# EAGLE library part ARDUINO-BASE (library xmaker)
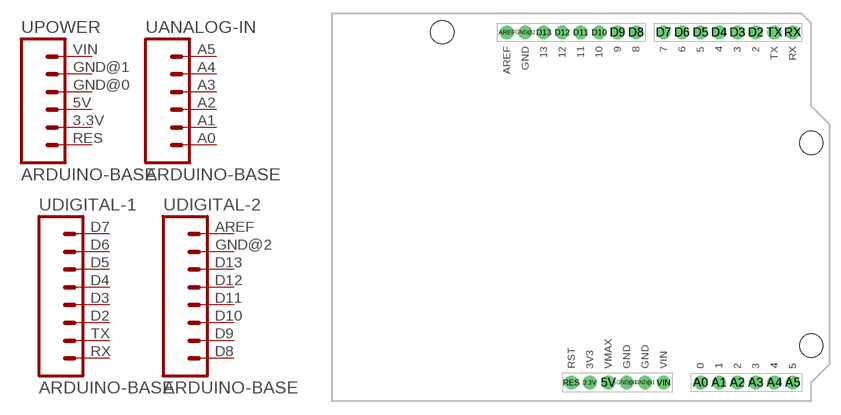
[diagram p22: symbol with the pads of ARDUINO-BASE; footprint ARDUINO-BASE]

Designator prefix U; gates ANALOG-IN=M06 DIGITAL-1=M08 DIGITAL-2=M08 POWER=M06

## ARDUINO-BASE  [ARDUINO-BASE]
3.3V  POWER:2  pas
5V  POWER:3  pas
A0  ANALOG-IN:1  pas
A1  ANALOG-IN:2  pas
A2  ANALOG-IN:3  pas
A3  ANALOG-IN:4  pas
A4  ANALOG-IN:5  pas
A5  ANALOG-IN:6  pas
AREF  DIGITAL-2:8  pas
D2  DIGITAL-1:3  pas
D3  DIGITAL-1:4  pas
D4  DIGITAL-1:5  pas
D5  DIGITAL-1:6  pas
D6  DIGITAL-1:7  pas
D7  DIGITAL-1:8  pas
D8  DIGITAL-2:1  pas
D9  DIGITAL-2:2  pas
D10  DIGITAL-2:3  pas
D11  DIGITAL-2:4  pas
D12  DIGITAL-2:5  pas
D13  DIGITAL-2:6  pas
GND@0  POWER:4  pas
GND@1  POWER:5  pas
GND@2  DIGITAL-2:7  pas
RES  POWER:1  pas
RX  DIGITAL-1:1  pas
TX  DIGITAL-1:2  pas
VIN  POWER:6  pas

## Footprint ARDUINO-BASE (pad centres in mm)
drill 1.016 pad 1.88 round: 3.3V 35.56,2.54; 5V 38.1,2.54; A0 50.8,2.54; A1 53.34,2.54; A2 55.88,2.54; A3 58.42,2.54; A4 60.96,2.54; A5 63.5,2.54; AREF 24.13,50.8; D2 58.42,50.8; D3 55.88,50.8; D4 53.34,50.8; D5 50.8,50.8; D6 48.26,50.8; D7 45.72,50.8; D8 41.91,50.8; D9 39.37,50.8; D10 36.83,50.8; D11 34.29,50.8; D12 31.75,50.8; D13 29.21,50.8; GND@0 40.64,2.54; GND@1 43.18,2.54; GND@2 26.67,50.8; RES 33.02,2.54; RX 63.5,50.8; TX 60.96,50.8; VIN 45.72,2.54
hole 3.2 at 66.04,7.62
hole 3.2 at 66.04,35.56
hole 3.2 at 15.24,50.8